# Altium footprint library CONTROLLERS.PcbLib: 1 footprints
Each footprint in its own frame and in the unit in brackets; x right, y up, seen from the top. Pads: shape width x height; smd on the part's side, far side on the other; paste and mask are expansions set on the pad; w line width, h text height; cw(c..) or ccw(c..) is an arc to the next point about the centre after c.
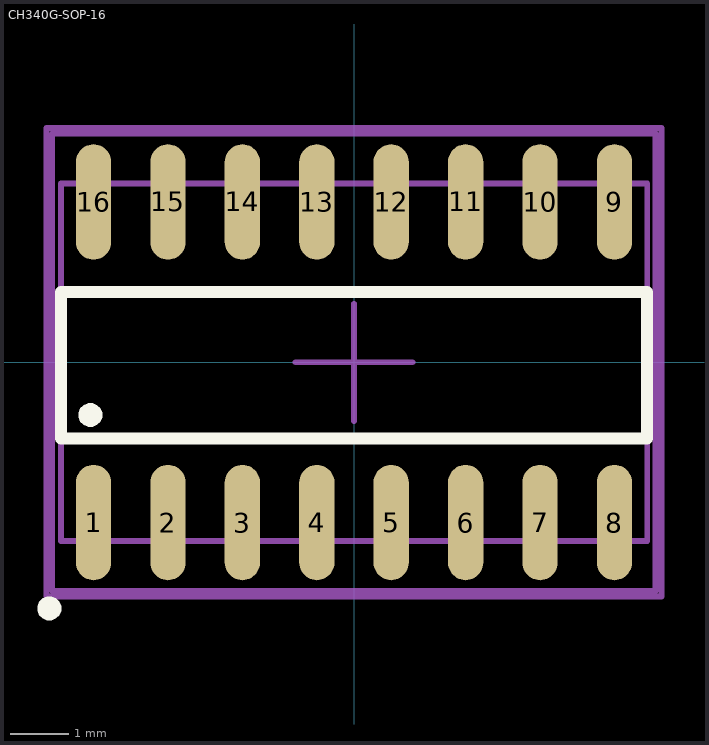
[diagram p0: the footprint, top view; thin cyan lines are the x and y axes]

## CH340G-SOP-16 [mil] "USB Bridge, USB to UART USB 2.0 UART Interface 16-SSOP"
pads (16):
  oval 23.7x77.6 smd: 1(-175,-107.72) 2(-125,-107.72) 3(-75,-107.72) 4(-25,-107.72) 5(25,-107.72) 6(75,-107.72) 7(125,-107.72) 8(175,-107.72) 9(175,107.72) 10(125,107.72) 11(75,107.72) 12(25,107.72) 13(-25,107.72) 14(-75,107.72) 15(-125,107.72) 16(-175,107.72)
Top Overlay:
  region: -204.72,-173.23 -206.29,-173.23 -209.18,-172.03 -211.4,-169.81 -212.6,-166.92 -212.6,-165.35 -212.6,-163.79 -211.4,-160.89 -209.18,-158.68 -206.29,-157.48 -204.72,-157.48 -203.16,-157.48 -200.26,-158.68 -198.05,-160.89 -196.85,-163.79 -196.85,-165.35 -196.85,-166.92 -198.05,-169.81 -200.26,-172.03 -203.16,-173.23
  region: -177.17,-43.31 -178.73,-43.31 -181.63,-42.11 -183.84,-39.89 -185.04,-37 -185.04,-35.43 -185.04,-33.87 -183.84,-30.97 -181.63,-28.76 -178.73,-27.56 -177.17,-27.56 -175.6,-27.56 -172.71,-28.76 -170.49,-30.97 -169.29,-33.87 -169.29,-35.43 -169.29,-37 -170.49,-39.89 -172.71,-42.11 -175.6,-43.31
  lines w7.87: -196.85,-51.18 196.85,-51.18 196.85,47.24 -196.85,47.24 -196.85,-51.18
Top Assembly:
  lines w3.94: -202.71,-153.58 202.69,-153.58 202.69,153.76 -202.71,153.76 -202.71,-153.58
Top Component Center:
  lines w3.94: -39.37,0 39.37,0 ; 0,-39.37 0,39.37
Top Component Outline:
  lines w3.94: -196.85,-120.05 -196.85,120.11 197.04,120.11 197.04,-120.05 -196.85,-120.05
Top Courtyard:
  lines w3.94: -206.69,-157.48 206.69,-157.48 206.69,157.48 -206.69,157.48 -206.69,-157.48
Top Designator:
  text ".Designator" at -300.4,-20.49 h60
3D body "SOIC-16_3.9x9.9mm_P1.27mm.step": height 68.9, standoff 0, extent -194.88,-118.11 194.88,118.11